# Altium schematic symbol library KSZ8081RNAIA-TR.SchLib: 1 symbol
Pins are listed as number, name and electrical type; pins without a type are passive.

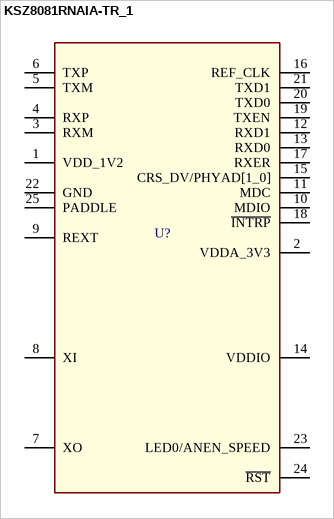
[diagram p0: symbol KSZ8081RNAIA-TR_1]

## KSZ8081RNAIA-TR_1
designator U?
footprint QFN-24_MCH
pins: 1 VDD_1V2, 2 VDDA_3V3, 3 RXM, 4 RXP, 5 TXM, 6 TXP, 7 XO, 8 XI, 9 REXT, 10 MDIO, 11 MDC, 12 RXD1, 13 RXD0, 14 VDDIO, 15 CRS_DV/PHYAD[1_0], 16 REF_CLK, 17 RXER, 18 ~{INTRP}, 19 TXEN, 20 TXD0, 21 TXD1, 22 GND, 23 LED0/ANEN_SPEED, 24 ~{RST}, 25 PADDLE